# Altium schematic symbol library Term,Header,1x8 Pin,2.54mm,Right,Thru.Schlib: 1 symbol
Pins are listed as number, name and electrical type; pins without a type are passive.

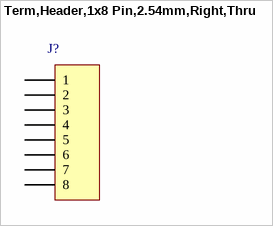
[diagram p0: symbol Term,Header,1x8 Pin,2.54mm,Right,Thru]

## Term,Header,1x8 Pin,2.54mm,Right,Thru
designator J?
pins: 1, 2, 3, 4, 5, 6, 7, 8